# EAGLE library part SERIAL_HEADER (library pmon_log)
PIN HEADER
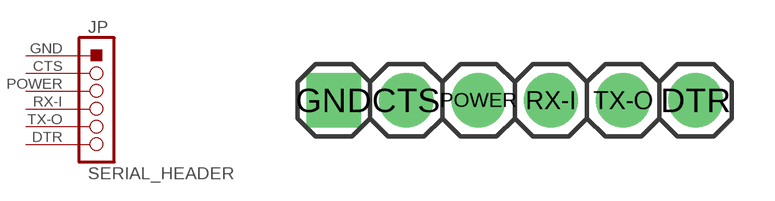
[diagram p1: symbol with the pads of SERIAL_HEADER; footprint SERIAL_HEADER]

Designator prefix JP

## SERIAL_HEADER  [SERIAL_HEADER]
CTS  2  pas
DTR  6  pas
GND  1  pas
POWER  3  pas
RX-I  4  pas
TX-O  5  pas

## Footprint SERIAL_HEADER (pad centres in mm)
PIN HEADER
drill 1.016 pad 1.905: CTS -3.81,0; DTR 6.35,0; POWER -1.27,0; RX-I 1.27,0; TX-O 3.81,0
drill 1.016 pad 1.905 square: GND -6.35,0